# Altium footprint library MaWei.PcbLib: 84 footprints (part 5 of 6)
Each footprint in its own frame and in the unit in brackets; x right, y up, seen from the top. Pads: shape width x height; smd on the part's side, far side on the other; paste and mask are expansions set on the pad; w line width, h text height; cw(c..) or ccw(c..) is an arc to the next point about the centre after c.
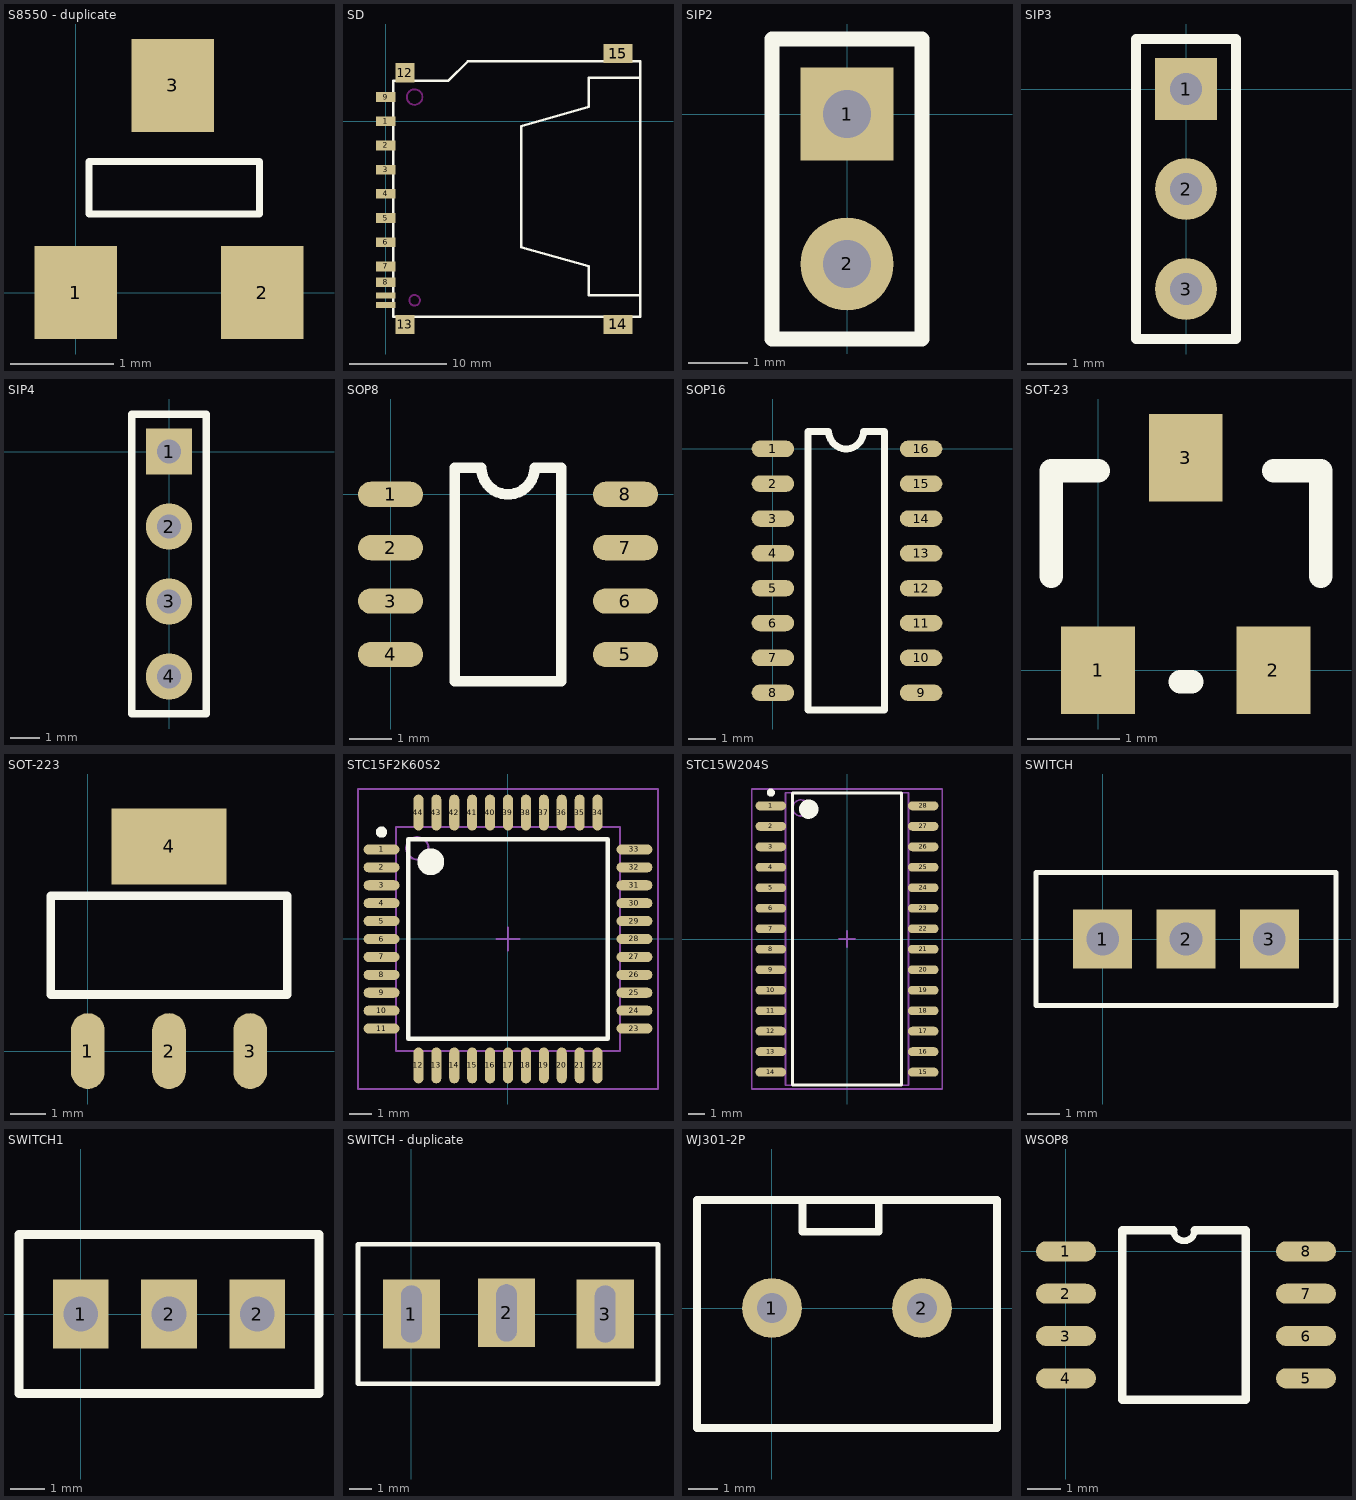
[diagram p4: the footprints below, top view; thin cyan lines are the x and y axes]

## S8550 - duplicate [mm]
pads (3):
  rect 0.8x0.9 smd: 1(0,0) 2(1.803,0) 3(0.94,2.007)
Top Overlay:
  lines w0.07: 0.127,0.762 1.778,0.762 1.778,1.27 0.127,1.27 0.127,0.762

## SD [mm] "SD"
pads (15):
  rect 2x1 smd: 1(0,0) 2(0,-2.5) 3(0,-5) 4(0,-7.5) 5(0,-10) 6(0,-12.5) 7(0,-15) 8(0,-16.625) 9(0,2.5)
  rect 2x0.6 smd: 10(0,-19) 11(0,-18)
  rect 2x2 smd: 12(2,5) 13(2,-21)
  rect 3x2 smd: 14(24,-21) 15(24,7)
Top Overlay:
  lines w0.254: 26.3,-18 21,-18 21,-15 14,-13 14,-0.5 21,1.5 21,4.5 26.3,4.5 ; 0.8,-20.2 0.8,4.2 6.5,4.2 8.5,6.2 26.3,6.2 26.3,-20.2 0.8,-20.2
Keep-Out Layer:
  circle w0.2: c3,2.5 r0.8
  circle w0.2: c3,-18.5 r0.55
3D body: height 3.3, standoff -0.6, extent -0.254,-20.846 25.996,7.13

## SIP2 [mm] "SIP2"
pads (2):
  rect 1.57x1.57 hole 0.81: 1(0,0)
  round 1.57 hole 0.81: 2(0,-2.54)
Top Overlay:
  lines w0.254: -1.27,-3.81 -1.27,1.27 1.27,1.27 1.27,-3.81 -1.27,-3.81
3D body: height 10.1, standoff -1.5, extent -1.27,-3.81 1.27,1.27

## SIP3 [mm] "SIP3"
pads (3):
  rect 1.57x1.57 hole 0.81: 1(0,0)
  round 1.57 hole 0.81: 2(0,-2.54) 3(0,-5.08)
Top Overlay:
  lines w0.254: -1.27,-6.35 1.27,-6.35 1.27,1.27 -1.27,1.27 -1.27,-6.35
3D body: height 10.1, standoff -1.5, extent -1.27,-6.35 1.27,1.27

## SIP4 [mm] "SIP4"
pads (4):
  rect 1.57x1.57 hole 0.81: 1(0,0)
  round 1.57 hole 0.81: 2(0,-2.54) 3(0,-5.08) 4(0,-7.62)
Top Overlay:
  lines w0.254: -1.27,-8.89 -1.27,1.27 1.27,1.27 1.27,-8.89 -1.27,-8.89
3D body: height 10.1, standoff -1.5, extent -1.27,-8.89 1.27,1.27

## SOP8 [mm] "SOP8"
pads (8):
  oval 1.55x0.6 smd: 1(0,0) 2(0,-1.27) 3(0,-2.54) 4(0,-3.81) 5(5.588,-3.81) 6(5.588,-2.54) 7(5.588,-1.27) 8(5.588,0)
Top Overlay:
  lines w0.254: 1.524,-4.445 4.064,-4.445 4.064,0.635 3.429,0.635 cw(c2.794,0.635) 2.159,0.635 1.524,0.635 1.524,-4.445
3D body: height 1.6, standoff 0, extent -0.227,-4.415 5.815,0.605

## SOP16 [mm] "SOP16"
pads (16):
  oval 1.55x0.6 smd: 1(0,0) 2(0,-1.27) 3(0,-2.54) 4(0,-3.81) 5(0,-5.08) 6(0,-6.35) 7(0,-7.62) 8(0,-8.89) 9(5.4,-8.89) 10(5.4,-7.62) 11(5.4,-6.35) 12(5.4,-5.08) 13(5.4,-3.81) 14(5.4,-2.54) 15(5.4,-1.27) 16(5.4,0)
Top Overlay:
  lines w0.254: 2,0.635 1.27,0.635 1.27,-9.525 4.064,-9.525 4.064,0.635 3.3,0.635 ; 2.032,0.635 ccw(c2.667,0.635) 3.302,0.635
3D body: height 1.95, standoff 0, extent -0.361,-9.595 5.695,0.705

## SOT-23 [mm] "SOT-23"
pads (3):
  rect 0.8x0.95 smd: 1(0,0) 2(1.9,0) 3(0.95,2.3)
Top Overlay:
  lines w0.254: -0.508,1.016 -0.508,2.159 0,2.159 ; 0.889,-0.127 1.016,-0.127 ; 1.905,2.159 2.413,2.159 2.413,1.016
3D body: height 1.1, standoff 0, extent -0.55,-0.15 2.45,2.392

## SOT-223 [mm] "SOT-223"
pads (4):
  oval 0.95x2.15 smd: 1(0,0) 2(2.3,0) 3(4.6,0)
  rect 3.25x2.15 smd: 4(2.3,5.8)
Top Overlay:
  lines w0.254: -1.05,1.6 5.65,1.6 5.65,4.4 -1.05,4.4 -1.05,1.6
3D body: height 1.59, standoff -0.06, extent -0.925,-0.55 5.575,6.45

## STC15F2K60S2 [mm] "TQFP, 44-Leads, Body 12.0x12.0mm (max), Pitch 0.80mm, IPC Medium Density"
height 1.6
pads (44):
  oval 1.6x0.45 smd: 1(-5.65,4) 2(-5.65,3.2) 3(-5.65,2.4) 4(-5.65,1.6) 5(-5.65,0.8) 6(-5.65,0) 7(-5.65,-0.8) 8(-5.65,-1.6) 9(-5.65,-2.4) 10(-5.65,-3.2) 11(-5.65,-4) 23(5.65,-4) 24(5.65,-3.2) 25(5.65,-2.4) 26(5.65,-1.6) 27(5.65,-0.8) 28(5.65,0) 29(5.65,0.8) 30(5.65,1.6) 31(5.65,2.4) 32(5.65,3.2) 33(5.65,4)
  oval 0.45x1.6 smd: 12(-4,-5.65) 13(-3.2,-5.65) 14(-2.4,-5.65) 15(-1.6,-5.65) 16(-0.8,-5.65) 17(0,-5.65) 18(0.8,-5.65) 19(1.6,-5.65) 20(2.4,-5.65) 21(3.2,-5.65) 22(4,-5.65) 34(4,5.65) 35(3.2,5.65) 36(2.4,5.65) 37(1.6,5.65) 38(0.8,5.65) 39(0,5.65) 40(-0.8,5.65) 41(-1.6,5.65) 42(-2.4,5.65) 43(-3.2,5.65) 44(-4,5.65)
Top Overlay:
  circle w0.6: c-3.45,3.45 r0.3
  circle w0.25: c-5.65,4.775 r0.125
  lines w0.2: -4.45,-4.45 4.45,-4.45 4.45,4.45 -4.45,4.45 -4.45,-4.45
Mechanical 13:
  circle w0.1: c-4.05,4.05 r0.5
  lines w0.1: -5,-5 5,-5 5,5 -5,5 -5,-5
Mechanical 15:
  lines w0.1: -0.5,0 0.5,0 ; 0,-0.5 0,0.5 ; -6.7,-6.7 6.7,-6.7 6.7,6.7 -6.7,6.7 -6.7,-6.7
3D body: height 1.6, standoff 0.15, extent -5,-5 5,5

## STC15W204S [mm] "SOP, 28-Leads, Body 18.1x7.6mm (max), Pitch 1.27mm, IPC Medium Density"
height 2.565
pads (28):
  oval 1.9x0.55 smd: 1(-4.725,8.255) 2(-4.725,6.985) 3(-4.725,5.715) 4(-4.725,4.445) 5(-4.725,3.175) 6(-4.725,1.905) 7(-4.725,0.635) 8(-4.725,-0.635) 9(-4.725,-1.905) 10(-4.725,-3.175) 11(-4.725,-4.445) 12(-4.725,-5.715) 13(-4.725,-6.985) 14(-4.725,-8.255) 15(4.725,-8.255) 16(4.725,-6.985) 17(4.725,-5.715) 18(4.725,-4.445) 19(4.725,-3.175) 20(4.725,-1.905) 21(4.725,-0.635) 22(4.725,0.635) 23(4.725,1.905) 24(4.725,3.175) 25(4.725,4.445) 26(4.725,5.715) 27(4.725,6.985) 28(4.725,8.255)
Top Overlay:
  circle w0.25: c-4.725,9.08 r0.125
  circle w0.6: c-2.375,8.05 r0.3
  lines w0.2: -3.375,-9.05 -3.375,9.05 3.375,9.05 3.375,-9.05 -3.375,-9.05
Mechanical 13:
  circle w0.1: c-2.86,8.125 r0.5
  lines w0.1: -3.81,-9.075 -3.81,9.075 3.81,9.075 3.81,-9.075 -3.81,-9.075
Mechanical 15:
  lines w0.1: -0.5,0 0.5,0 ; 0,-0.5 0,0.5 ; -5.9,-9.3 -5.9,9.3 5.9,9.3 5.9,-9.3 -5.9,-9.3
3D body: height 2.57, standoff 0.1, extent -3.81,-9.075 3.81,9.075

## SWITCH [mm]
pads (3):
  rect 1.8x1.8 hole 1: 1(0,0) 2(2.54,0) 3(5.08,0)
Top Overlay:
  lines w0.15: -2.032,-2.032 -2.032,2.032 1.524,2.032 3.556,2.032 7.112,2.032 7.112,-2.032 -2.032,-2.032

## SWITCH1 [mm]
height 5
pads (3):
  rect 1.6x2 hole 1: 1(0,0) 2(2.54,0) 2(5.08,0)
Top Overlay:
  lines w0.254: -1.778,-2.286 6.858,-2.286 6.858,2.286 -1.778,2.286 -1.778,-2.286

## SWITCH - duplicate [mm]
pads (3):
  rect 2.5x3 hole 0.9 slot 2.5 at 90 deg: 1(0,0) 2(4.166,0.051) 3(8.484,0)
Top Overlay:
  lines w0.2: -2.337,-3.048 -2.337,3.048 10.795,3.048 10.795,-3.048 -2.337,-3.048

## WJ301-2P [mm] "WJ301-2P"
pads (2):
  round 2 hole 1: 1(0,0) 2(5,0)
Top Overlay:
  lines w0.254: 1.016,3.6 1.016,2.54 3.556,2.54 3.556,3.6 ; -2.5,-4 7.5,-4 7.5,3.6 -2.5,3.6 -2.5,-4

## WSOP8 [mm] "WSOP8"
pads (8):
  oval 1.8x0.6 smd: 1(0,0) 2(0,-1.27) 3(0,-2.54) 4(0,-3.81) 5(7.2,-3.81) 6(7.2,-2.54) 7(7.2,-1.27) 8(7.2,0)
Top Overlay:
  lines w0.2: 3.225,0.635 ccw(c3.542,0.635) 3.86,0.635
  lines w0.254: 3.225,0.635 1.687,0.635 1.687,-4.445 5.397,-4.445 5.397,0.635 3.86,0.635
3D body: height 1.75, standoff -0.01, extent -0.452,-4.63 7.65,0.83